# Altium footprint library PASSMARKE.PcbLib: 1 footprints
Each footprint in its own frame and in the unit in brackets; x right, y up, seen from the top. Pads: shape width x height; smd on the part's side, far side on the other; paste and mask are expansions set on the pad; w line width, h text height; cw(c..) or ccw(c..) is an arc to the next point about the centre after c.
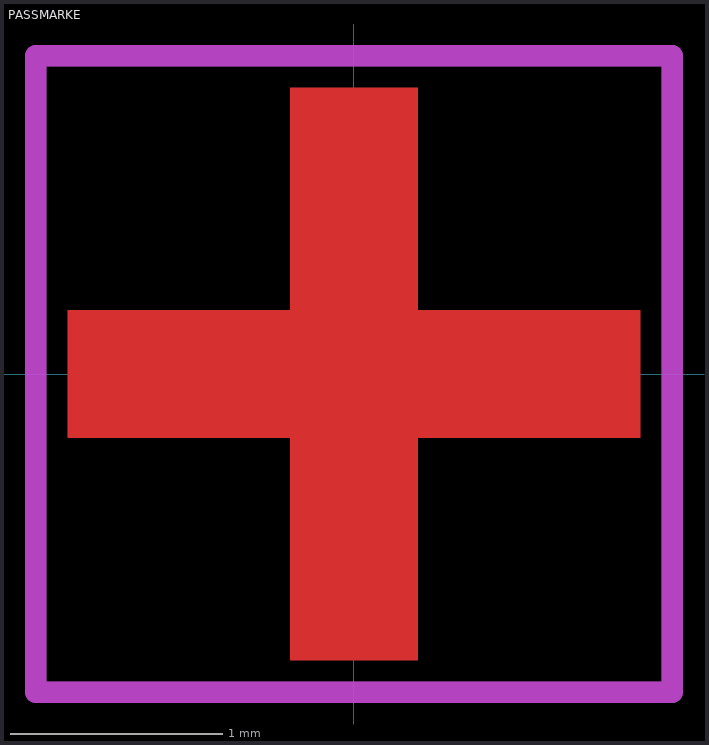
[diagram p0: the footprint, top view; thin cyan lines are the x and y axes]

## PASSMARKE [mm]
Top Layer:
  region: -1.35,0.3 -0.3,0.3 -0.3,1.35 0.3,1.35 0.3,0.3 1.35,0.3 1.35,-0.3 0.3,-0.3 0.3,-1.35 -0.3,-1.35 -0.3,-0.3 -1.35,-0.3
Top Layer keep-out:
  lines w0.1: -1.5,-1.5 -1.5,1.5 1.5,1.5 1.5,-1.5 -1.5,-1.5
Top Solder:
  rectangle: -1.5,-1.5 1.5,1.5
Mechanical 15:
  lines w0.1: -1.5,-1.5 -1.5,1.5 1.5,1.5 1.5,-1.5 -1.5,-1.5